# EAGLE library part TCS34725 (library _modules)
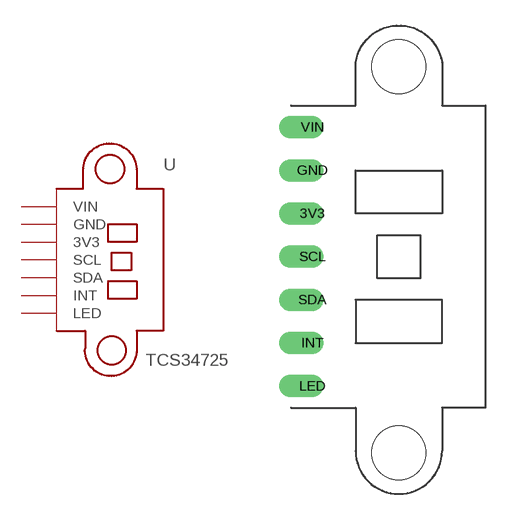
[diagram p3: symbol with the pads of TCS34725; footprint TCS34725]

Designator prefix -

## TCS34725  [TCS34725]
3V3  3V3
GND  GND
INT  INT
LED  LED
SCL  SCL
SDA  SDA
VIN  VIN

## Footprint TCS34725 (pad centres in mm)
drill 0.813 offset: 3V3 0,-5.08; GND 0,-2.54; INT 0,-12.7; LED 0,-15.24; SCL 0,-7.62; SDA 0,-10.16; VIN 0,0
hole 3.175 at 5.08,-19.177
hole 3.175 at 5.08,3.556